# EAGLE library part LM4880 (library audio_amp)
TI dual audio amp 250mW
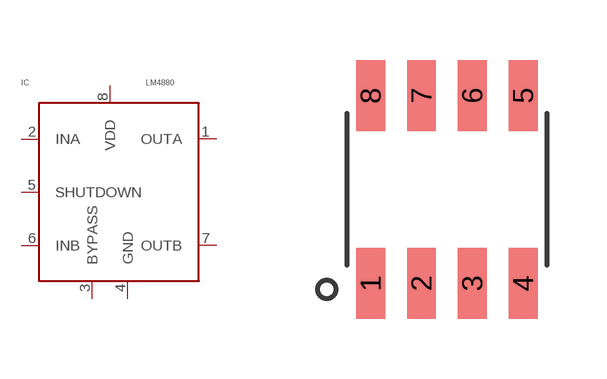
[diagram p0: symbol with the pads of SOIC-8; footprint SOIC-8]

Designator prefix IC

## LM4880  [SOIC-8]
1  OUTA
2  INA
3  BYPASS
4  GND
5  SHUTDOWN
6  INB
7  OUTB
8  VDD

## Footprint SOIC-8 (pad centres in mm)
smd 0.72 x 1.78: 1 -1.905,-2.35; 2 -0.635,-2.35; 3 0.635,-2.35; 4 1.905,-2.35; 5 1.905,2.35; 6 0.635,2.35; 7 -0.635,2.35; 8 -1.905,2.35